# Altium footprint library praline.PcbLib: 57 footprints (part 1 of 4)
Each footprint in its own frame and in the unit in brackets; x right, y up, seen from the top. Pads: shape width x height; smd on the part's side, far side on the other; paste and mask are expansions set on the pad; w line width, h text height; cw(c..) or ccw(c..) is an arc to the next point about the centre after c.
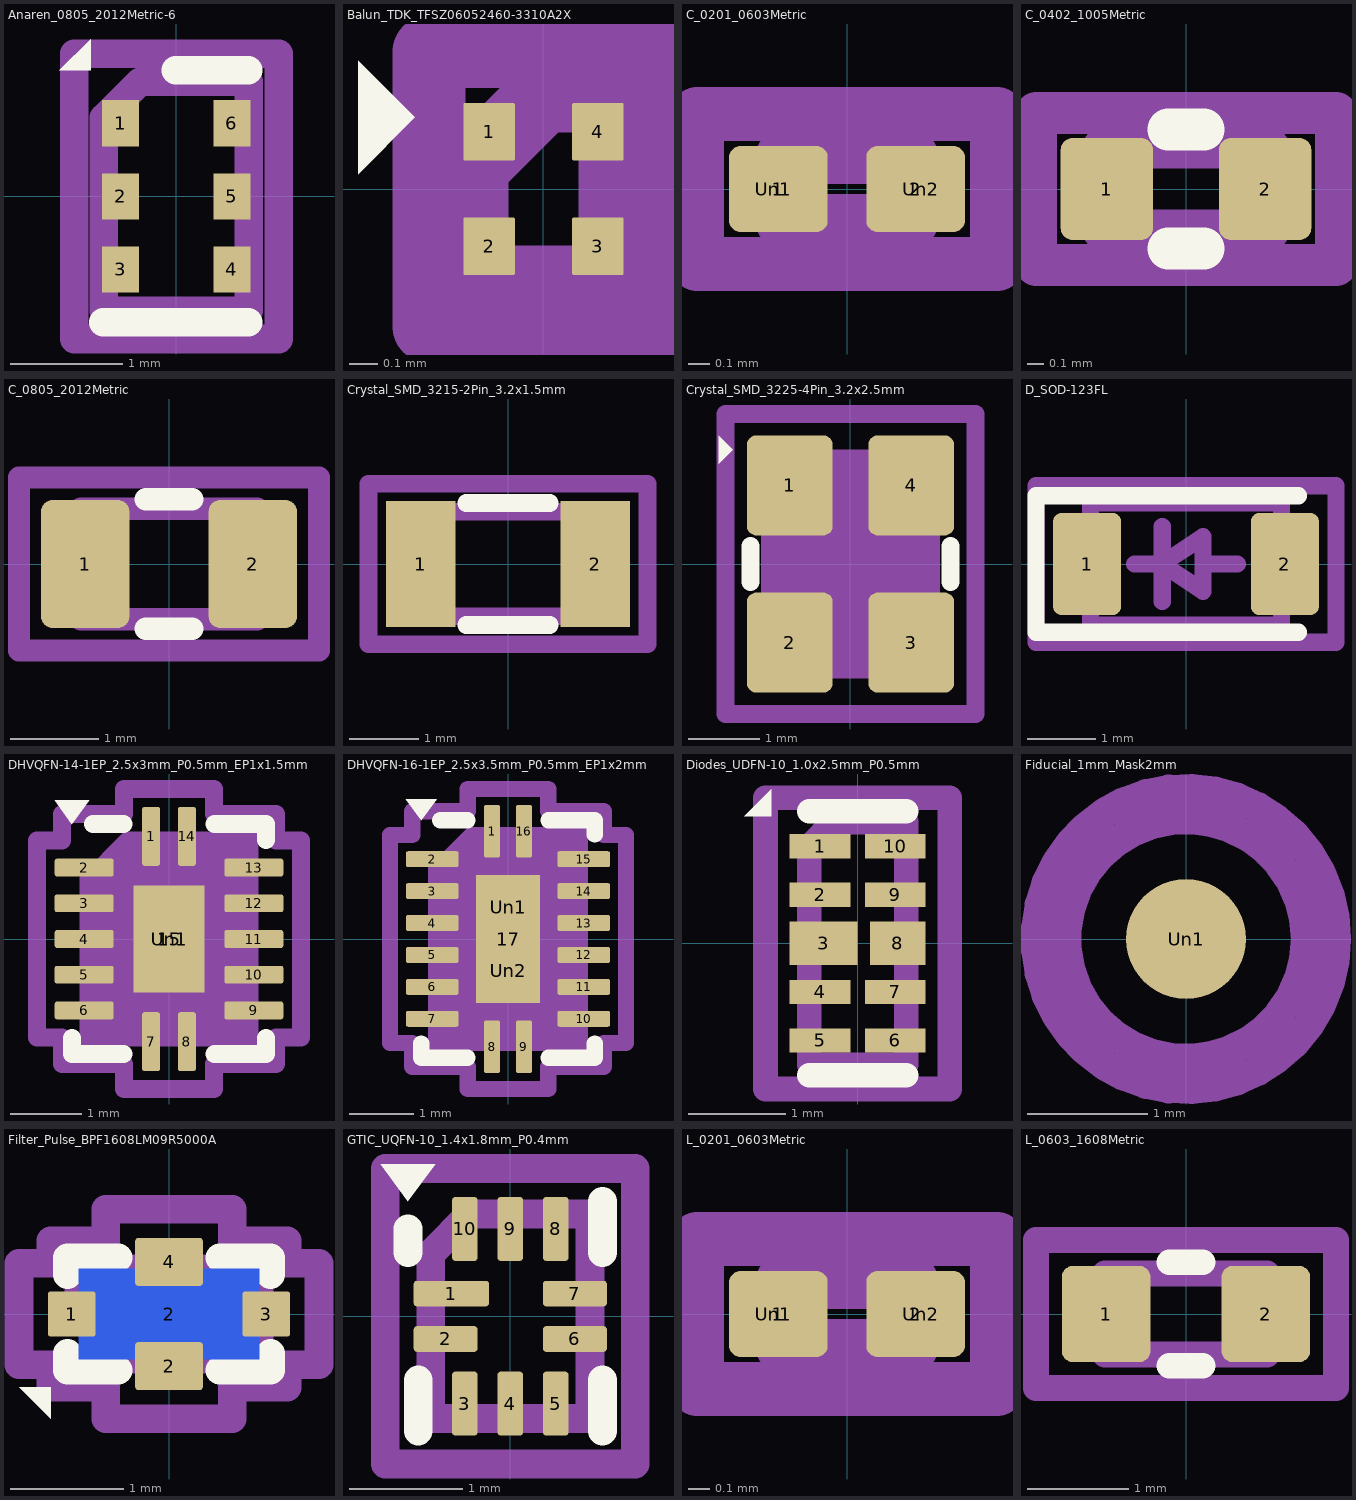
[diagram p0: the footprints below, top view; thin cyan lines are the x and y axes]

## Anaren_0805_2012Metric-6 [mm]
pads (6):
  rect 0.33x0.41 smd mask+0.05: 1(-0.495,0.65) 2(-0.495,0) 3(-0.495,-0.65) 4(0.495,-0.65) 5(0.495,0) 6(0.495,0.65)
Top Overlay:
  region: -0.76,1.12 -1.04,1.12 -0.76,1.4
  lines w0.254: -0.65,-1.12 0.64,-1.12 ; -0.005,1.12 0.64,1.12
Mechanical 6:
  lines w0.254: -0.645,-1.02 0.645,-1.02 0.645,1.02 -0.323,1.02 -0.645,0.697 -0.645,-1.02
  text "'.Designator'" at 0.138,-0.214 h0.5
Mechanical 15:
  lines w0.254: -0.91,-1.27 0.91,-1.27 0.91,1.27 -0.91,1.27 -0.91,-1.27

## Balun_TDK_TFSZ06052460-3310A2X [mm]
pads (4):
  rrect5% 0.18x0.2 smd mask+0.05: 1(-0.19,0.2) 2(-0.19,-0.2) 3(0.19,-0.2) 4(0.19,0.2)
Top Overlay:
  region: -0.45,0.25 -0.648,0.052 -0.648,0.448
Mechanical 6:
  lines w0.254: -0.25,-0.325 -0.25,0.075 0,0.325 0.25,0.325 0.25,-0.325 -0.25,-0.325
  text "'.Designator'" at 0.086,-1.17 h0.5
Mechanical 15:
  lines w0.254: -0.4,-0.48 -0.4,0.48 0.4,0.48 0.4,-0.48 -0.4,-0.48

## C_0201_0603Metric [mm]
pads (4):
  rrect25% 0.46x0.4 smd paste-0.46 mask+0.05: 1(-0.32,0) 2(0.32,0)
  rrect50% 0.318x0.36 on Top Paste mask-0.36: Un1(-0.345,0) Un2(0.345,0)
Mechanical 6:
  lines w0.254: -0.3,-0.15 -0.3,0.15 0.3,0.15 0.3,-0.15 -0.3,-0.15
  text "'.Designator'" at -0.227,-0.57 h0.25
Mechanical 15:
  lines w0.254: -0.7,-0.35 -0.7,0.35 0.7,0.35 0.7,-0.35 -0.7,-0.35

## C_0402_1005Metric [mm]
pads (2):
  rrect25% 0.56x0.62 smd mask+0.05: 1(-0.48,0) 2(0.48,0)
Top Overlay:
  lines w0.254: -0.108,-0.36 0.108,-0.36 ; -0.108,0.36 0.108,0.36
Mechanical 6:
  lines w0.254: -0.5,-0.25 -0.5,0.25 0.5,0.25 0.5,-0.25 -0.5,-0.25
  text "'.Designator'" at 0.166,0.07 h0.25
Mechanical 15:
  lines w0.254: -0.91,-0.46 0.91,-0.46 0.91,0.46 -0.91,0.46 -0.91,-0.46

## C_0805_2012Metric [mm]
pads (2):
  rrect25% 1x1.45 smd mask+0.05: 1(-0.95,0) 2(0.95,0)
Top Overlay:
  lines w0.254: -0.261,-0.735 0.261,-0.735 ; -0.261,0.735 0.261,0.735
Mechanical 6:
  lines w0.254: -1,-0.625 -1,0.625 1,0.625 1,-0.625 -1,-0.625
  text "'.Designator'" at -0.444,-0.14 h0.5
Mechanical 15:
  lines w0.254: -1.7,-0.98 -1.7,0.98 1.7,0.98 1.7,-0.98 -1.7,-0.98

## Crystal_SMD_3215-2Pin_3.2x1.5mm [mm]
pads (2):
  rect 1x1.8 smd mask+0.05: 1(-1.25,0) 2(1.25,0)
Top Overlay:
  lines w0.254: -0.6,-0.875 0.6,-0.875 ; -0.6,0.875 0.6,0.875
Mechanical 6:
  lines w0.254: -1.6,-0.75 1.6,-0.75 1.6,0.75 -1.6,0.75 -1.6,-0.75
  text "'.Designator'" at 0.347,0.223 h0.8
Mechanical 15:
  lines w0.254: -2,-1.15 -2,1.15 2,1.15 2,-1.15 -2,-1.15

## Crystal_SMD_3225-4Pin_3.2x2.5mm [mm]
pads (4):
  rrect21% 1.2x1.4 smd mask+0.05: 1(-0.85,1.1) 2(-0.85,-1.1) 3(0.85,-1.1) 4(0.85,1.1)
Top Overlay:
  region: -1.65,1.6 -1.848,1.402 -1.848,1.798
  lines w0.254: -1.4,-0.25 -1.4,0.25 ; 1.4,-0.25 1.4,0.25
Mechanical 6:
  region: 1.25,-1.6 -1.25,-1.6 -1.25,0.975 -0.625,1.6 1.25,1.6
  text "'.Designator'" at 0.22,-0.351 h0.8
Mechanical 15:
  lines w0.254: -1.75,-2.1 -1.75,2.1 1.75,2.1 1.75,-2.1 -1.75,-2.1

## D_SOD-123FL [mm]
pads (2):
  rrect25% 1x1.5 smd mask+0.05: 1(-1.45,0) 2(1.45,0)
Top Overlay:
  lines w0.254: 1.65,-1 -2.2,-1 -2.2,1 1.65,1
Mechanical 6:
  lines w0.254: -0.75,0 -0.35,0 ; -0.35,-0.55 -0.35,0 ; -0.35,0.55 -0.35,0 ; 0.25,0 0.75,0 ; -0.35,0 0.25,0.4 0.25,-0.4 -0.35,0 ; -1.4,-0.9 -1.4,0.9 1.4,0.9 1.4,-0.9 -1.4,-0.9
  text "'.Designator'" at 1.344,-2.126 h1
Mechanical 15:
  lines w0.254: -2.2,-1.15 -2.2,1.15 2.2,1.15 2.2,-1.15 -2.2,-1.15

## DHVQFN-14-1EP_2.5x3mm_P0.5mm_EP1x1.5mm [mm]
pads (16):
  rrect25% 0.25x0.825 smd mask+0.05: 1(-0.25,1.438) 7(-0.25,-1.438) 8(0.25,-1.438) 14(0.25,1.438)
  rrect25% 0.825x0.25 smd mask+0.05: 2(-1.188,1) 3(-1.188,0.5) 4(-1.188,0) 5(-1.188,-0.5) 6(-1.188,-1) 9(1.188,-1) 10(1.188,-0.5) 11(1.188,0) 12(1.188,0.5) 13(1.188,1)
  rect 1x1.5 smd paste-1.5 mask+0.05: 15(0,0)
  rrect50% 0.81x1.21 on Top Paste mask-1.21: Un1(0,0)
Top Overlay:
  region: -1.36,1.61 -1.6,1.94 -1.12,1.94
  lines w0.254: -1.36,-1.385 -1.36,-1.61 -0.635,-1.61 ; -1.06,1.61 -0.635,1.61 ; 0.635,-1.61 1.36,-1.61 1.36,-1.385 ; 0.635,1.61 1.36,1.61 1.36,1.385
Mechanical 6:
  region: 1.25,-1.5 -1.25,-1.5 -1.25,0.875 -0.625,1.5 1.25,1.5
  text "'.Designator'" at 0.209,-0.493 h0.75
Mechanical 15:
  lines w0.254: -1.85,-1.38 -1.5,-1.38 -1.5,-1.75 -0.63,-1.75 -0.63,-2.1 0.63,-2.1 0.63,-1.75 1.5,-1.75 1.5,-1.38 1.85,-1.38 1.85,1.38 1.5,1.38 1.5,1.75 0.63,1.75 0.63,2.1 -0.63,2.1 -0.63,1.75 -1.5,1.75 -1.5,1.38 -1.85,1.38 -1.85,-1.38

## DHVQFN-16-1EP_2.5x3.5mm_P0.5mm_EP1x2mm [mm]
pads (19):
  rrect25% 0.25x0.825 smd mask+0.05: 1(-0.25,1.687) 8(-0.25,-1.687) 9(0.25,-1.687) 16(0.25,1.687)
  rrect25% 0.825x0.25 smd mask+0.05: 2(-1.188,1.25) 3(-1.188,0.75) 4(-1.188,0.25) 5(-1.188,-0.25) 6(-1.188,-0.75) 7(-1.188,-1.25) 10(1.188,-1.25) 11(1.188,-0.75) 12(1.188,-0.25) 13(1.188,0.25) 14(1.188,0.75) 15(1.188,1.25)
  rect 1x2 smd paste-2 mask+0.05: 17(0,0)
  rrect50% 0.81x0.81 on Top Paste mask-0.81: Un1(0,0.5) Un2(0,-0.5)
Top Overlay:
  region: -1.36,1.86 -1.6,2.19 -1.12,2.19
  lines w0.254: -1.36,-1.635 -1.36,-1.86 -0.635,-1.86 ; -1.06,1.86 -0.635,1.86 ; 0.635,-1.86 1.36,-1.86 1.36,-1.635 ; 0.635,1.86 1.36,1.86 1.36,1.635
Mechanical 6:
  region: 1.25,-1.75 -1.25,-1.75 -1.25,1.125 -0.625,1.75 1.25,1.75
  text "'.Designator'" at -0.246,0.572 h0.88
Mechanical 15:
  lines w0.254: -1.85,-1.63 -1.5,-1.63 -1.5,-2 -0.63,-2 -0.63,-2.35 0.63,-2.35 0.63,-2 1.5,-2 1.5,-1.63 1.85,-1.63 1.85,1.63 1.5,1.63 1.5,2 0.63,2 0.63,2.35 -0.63,2.35 -0.63,2 -1.5,2 -1.5,1.63 -1.85,1.63 -1.85,-1.63

## Diodes_UDFN-10_1.0x2.5mm_P0.5mm [mm]
pads (10):
  rect 0.625x0.25 smd mask+0.05: 1(-0.387,1) 2(-0.387,0.5) 4(-0.387,-0.5) 5(-0.387,-1) 6(0.387,-1) 7(0.387,-0.5) 9(0.387,0.5) 10(0.387,1)
  rect 0.7x0.45 smd mask+0.05: 3(-0.35,0)
  rect 0.575x0.45 smd mask+0.05: 8(0.413,0)
Top Overlay:
  region: -0.89,1.31 -1.17,1.31 -0.89,1.59
  lines w0.254: -0.5,-1.36 0.5,-1.36 ; -0.5,1.36 0.5,1.36
Mechanical 6:
  lines w0.254: -0.5,-1.25 0.5,-1.25 0.5,1.25 -0.25,1.25 -0.5,1 -0.5,-1.25
  text "'.Designator'" at -0.152,0.357 h0.55
Mechanical 15:
  lines w0.254: -0.95,-1.5 0.95,-1.5 0.95,1.5 -0.95,1.5 -0.95,-1.5

## Fiducial_1mm_Mask2mm [mm]
pads (1):
  round 1 smd paste-1 mask+0.5: Un1(0,0)
Mechanical 6:
  circle w0.254: c0,0 r1
  text "'.Designator'" at -0.436,-0.138 h0.5
Mechanical 15:
  circle w0.254: c0,0 r1.25

## Filter_Pulse_BPF1608LM09R5000A [mm]
pads (5):
  rrect12% 0.425x0.4 smd mask+0.05: 1(-0.863,0) 3(0.863,0)
  rrect12% 0.6x0.425 smd mask+0.05: 2(0,-0.463) 4(0,0.463)
  rect 1.6x0.8 smd far side paste-1.6 mask-1.6: 2(0,0)
Top Overlay:
  region: -1.05,-0.93 -1.33,-0.65 -1.05,-0.65
  lines w0.254: -0.9,-0.35 -0.9,-0.5 -0.45,-0.5 ; -0.9,0.35 -0.9,0.5 -0.45,0.5 ; 0.45,-0.5 0.9,-0.5 0.9,-0.35 ; 0.45,0.5 0.9,0.5 0.9,0.35
Mechanical 6:
  lines w0.254: -0.8,0 -0.4,-0.4 0.8,-0.4 0.8,0.4 -0.8,0.4 -0.8,0
  text "'.Designator'" at 0.319,1.088 h0.5
Mechanical 15:
  lines w0.254: -1.33,-0.45 -1.05,-0.45 -1.05,-0.65 -0.56,-0.65 -0.56,-0.93 0.56,-0.93 0.56,-0.65 1.05,-0.65 1.05,-0.45 1.33,-0.45 1.33,0.45 1.05,0.45 1.05,0.65 0.56,0.65 0.56,0.93 -0.56,0.93 -0.56,0.65 -1.05,0.65 -1.05,0.45 -1.33,0.45 -1.33,-0.45

## GTIC_UQFN-10_1.4x1.8mm_P0.4mm [mm]
pads (10):
  rrect25% 0.663x0.225 smd mask+0.05: 1(-0.519,0.2)
  rrect25% 0.563x0.225 smd mask+0.05: 2(-0.569,-0.2) 6(0.569,-0.2) 7(0.569,0.2)
  rrect25% 0.225x0.563 smd mask+0.05: 3(-0.4,-0.768) 4(0,-0.768) 5(0.4,-0.768) 8(0.4,0.768) 9(0,0.768) 10(-0.4,0.768)
Top Overlay:
  region: -0.9,1.01 -1.14,1.34 -0.66,1.34
  lines w0.254: -0.9,0.56 -0.9,0.77 ; -0.81,-1.01 -0.81,-0.56 ; 0.81,-1.01 0.81,-0.56 ; 0.81,0.56 0.81,1.01
Mechanical 6:
  lines w0.254: -0.7,-0.9 -0.7,0.55 -0.35,0.9 0.7,0.9 0.7,-0.9 -0.7,-0.9
  text "'.Designator'" at 0.126,-0.19 h0.45
Mechanical 15:
  lines w0.254: -1.1,-1.3 -1.1,1.3 1.1,1.3 1.1,-1.3 -1.1,-1.3

## L_0201_0603Metric [mm]
pads (4):
  rrect25% 0.46x0.4 smd paste-0.46 mask+0.05: 1(-0.32,0) 2(0.32,0)
  rrect50% 0.318x0.36 on Top Paste mask-0.36: Un1(-0.345,0) Un2(0.345,0)
Mechanical 6:
  lines w0.254: -0.3,-0.15 0.3,-0.15 0.3,0.15 -0.3,0.15 -0.3,-0.15
  text "'.Designator'" at 0.099,-0.38 h0.25
Mechanical 15:
  lines w0.254: -0.7,-0.35 0.7,-0.35 0.7,0.35 -0.7,0.35 -0.7,-0.35

## L_0603_1608Metric [mm]
pads (2):
  rrect25% 0.875x0.95 smd mask+0.05: 1(-0.787,0) 2(0.787,0)
Top Overlay:
  lines w0.254: -0.163,-0.51 0.163,-0.51 ; -0.163,0.51 0.163,0.51
Mechanical 6:
  lines w0.254: -0.8,-0.4 -0.8,0.4 0.8,0.4 0.8,-0.4 -0.8,-0.4
  text "'.Designator'" at 0.254,0.109 h0.4
Mechanical 15:
  lines w0.254: -1.48,-0.73 1.48,-0.73 1.48,0.73 -1.48,0.73 -1.48,-0.73